# EAGLE library part OLIMEX_DEV (library paparazzi)
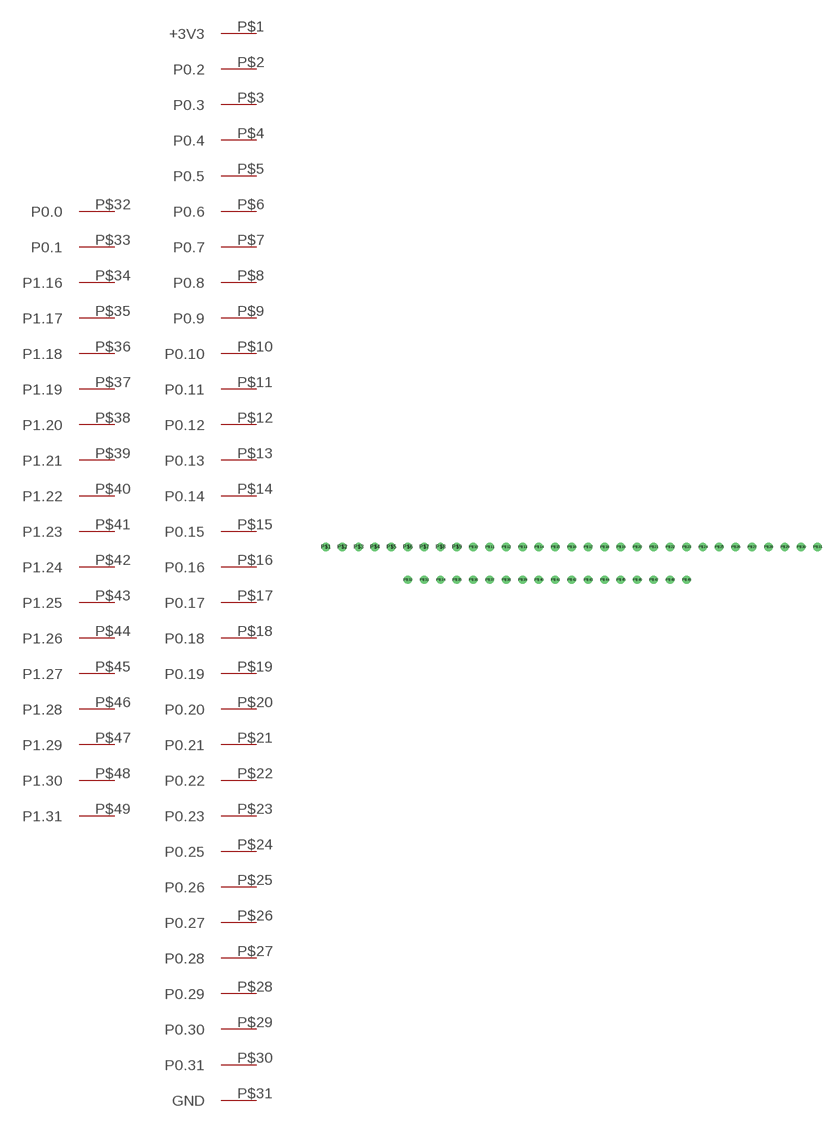
[diagram p49: symbol with the pads of OLIMEX_DEV; footprint OLIMEX_DEV]

Designator prefix -

## OLIMEX_DEV  [OLIMEX_DEV]
P$1  +3V3
P$2  P0.2
P$3  P0.3
P$4  P0.4
P$5  P0.5
P$6  P0.6
P$7  P0.7
P$8  P0.8
P$9  P0.9
P$10  P0.10
P$11  P0.11
P$12  P0.12
P$13  P0.13
P$14  P0.14
P$15  P0.15
P$16  P0.16
P$17  P0.17
P$18  P0.18
P$19  P0.19
P$20  P0.20
P$21  P0.21
P$22  P0.22
P$23  P0.23
P$24  P0.25
P$25  P0.26
P$26  P0.27
P$27  P0.28
P$28  P0.29
P$29  P0.30
P$30  P0.31
P$31  GND
P$32  P0.0
P$33  P0.1
P$34  P1.16
P$35  P1.17
P$36  P1.18
P$37  P1.19
P$38  P1.20
P$39  P1.21
P$40  P1.22
P$41  P1.23
P$42  P1.24
P$43  P1.25
P$44  P1.26
P$45  P1.27
P$46  P1.28
P$47  P1.29
P$48  P1.30
P$49  P1.31

## Footprint OLIMEX_DEV (pad centres in mm)
drill 0.8: P$1 0,0; P$2 2.54,0; P$3 5.08,0; P$4 7.62,0; P$5 10.16,0; P$6 12.7,0; P$7 15.24,0; P$8 17.78,0; P$9 20.32,0; P$10 22.86,0; P$11 25.4,0; P$12 27.94,0; P$13 30.48,0; P$14 33.02,0; P$15 35.56,0; P$16 38.1,0; P$17 40.64,0; P$18 43.18,0; P$19 45.72,0; P$20 48.26,0; P$21 50.8,0; P$22 53.34,0; P$23 55.88,0; P$24 58.42,0; P$25 60.96,0; P$26 63.5,0; P$27 66.04,0; P$28 68.58,0; P$29 71.12,0; P$30 73.66,0; P$31 76.2,0; P$32 12.7,-5.08; P$33 15.24,-5.08; P$34 17.78,-5.08; P$35 20.32,-5.08; P$36 22.86,-5.08; P$37 25.4,-5.08; P$38 27.94,-5.08; P$39 30.48,-5.08; P$40 33.02,-5.08; P$41 35.56,-5.08; P$42 38.1,-5.08; P$43 40.64,-5.08; P$44 43.18,-5.08; P$45 45.72,-5.08; P$46 48.26,-5.08; P$47 50.8,-5.08; P$48 53.34,-5.08; P$49 55.88,-5.08